# Altium footprint library status board parts.PcbLib: 6 footprints
Each footprint in its own frame and in the unit in brackets; x right, y up, seen from the top. Pads: shape width x height; smd on the part's side, far side on the other; paste and mask are expansions set on the pad; w line width, h text height; cw(c..) or ccw(c..) is an arc to the next point about the centre after c.
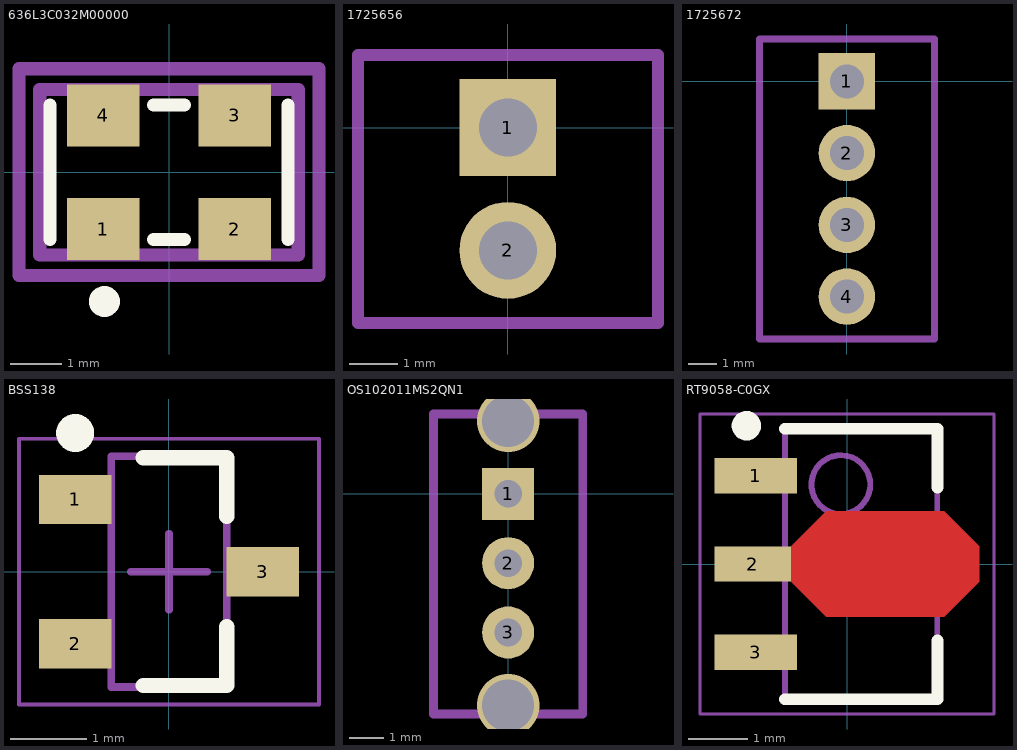
[diagram p0: the footprints below, top view; thin cyan lines are the x and y axes]

## 636L3C032M00000 [mm] "OSC XO 32.000MHZ HCMOS TTL SMD"
height 1.4
pads (4):
  rect 1.4x1.2 smd: 1(-1.27,-1.1) 2(1.27,-1.1) 3(1.27,1.1) 4(-1.27,1.1)
Top Overlay:
  circle w0.3: c-1.25,-2.5 r0.15
  lines w0.254: -2.3,-1.3 -2.3,1.3 ; -0.3,-1.3 0.3,-1.3 ; -0.3,1.3 0.3,1.3 ; 2.3,-1.3 2.3,1.3
Mechanical 13:
  lines w0.254: -2.5,-1.6 -2.5,1.6 2.5,1.6 2.5,-1.6 -2.5,-1.6
Mechanical 15:
  lines w0.254: -2.9,-2 2.9,-2 2.9,2 -2.9,2 -2.9,-2
3D body: height 2, standoff 0, extent -2.5,-1.6 2.5,1.6

## 1725656 [mm] "CONN TERM BLOCK 2.54MM 2POS"
height 8.5
pads (2):
  rect 2x2 hole 1.2: 1(0,0)
  round 2 hole 1.2: 2(0,-2.54)
Mechanical 15:
  lines w0.254: -3.096,-4.04 -3.096,1.5 3.104,1.5 3.104,-4.04 -3.048,-4.04

## 1725672 [mm] "CONN TERM BLOCK 2.54MM 2POS"
height 8.5
pads (4):
  rect 2x2 hole 1.2: 1(0,0)
  round 2 hole 1.2: 2(0,-2.54) 3(0,-5.08) 4(0,-7.62)
Mechanical 15:
  lines w0.254: -3.096,-9.12 3.104,-9.12 3.104,1.5 -3.096,1.5 -3.096,-9.12

## BSS138 [mm] "MOSFET N-CH 50V 220MA SOT-23"
height 1.12
pads (3):
  rect 0.95x0.65 smd: 1(-1.235,0.95) 2(-1.235,-0.95) 3(1.235,0)
Top Overlay:
  circle w0.25: c-1.235,1.825 r0.125
  lines w0.2: -0.34,-1.5 0.76,-1.5 0.76,-0.725 ; -0.34,1.5 0.76,1.5 0.76,0.725
Mechanical 13:
  lines w0.1: -0.76,-1.52 -0.76,1.52 0.76,1.52 0.76,-1.52 -0.76,-1.52
Mechanical 15:
  lines w0.05: -1.975,-1.75 -1.975,1.75 1.975,1.75 1.975,-1.75 -1.975,-1.75
  lines w0.1: -0.5,0 0.5,0 ; 0,-0.5 0,0.5
3D body: height 1.12, standoff 0, extent -0.76,-1.52 0.76,1.52

## OS102011MS2QN1 [mm] "SWITCH SLIDE SPDT 100MA 12V"
height 4
pads (3):
  rect 1.5x1.5 hole 0.8: 1(0,0)
  round 1.5 hole 0.8: 2(0,-2) 3(0,-4)
via 0,-6.1 diameter 1.8 hole 1.5
via 0,2.1 diameter 1.8 hole 1.5
Mechanical 15:
  lines w0.254: -2.159,-6.35 2.15,-6.35 2.15,2.286 ; -2.15,-6.35 -2.15,2.3 2.15,2.3

## RT9058-C0GX [mm]
height 1.6
pads (3):
  rect 1.4x0.6 smd: 1(-1.55,1.5) 3(-1.55,-1.5)
  rect 1.3x0.6 smd: 2(-1.6,0)
Top Layer:
  region: -0.95,0.3 -0.35,0.9 1.65,0.9 2.25,0.3 2.25,-0.3 1.65,-0.9 -0.35,-0.9 -0.95,-0.3
Top Overlay:
  circle w0.25: c-1.71,2.35 r0.125
  lines w0.2: -1.06,-2.3 1.54,-2.3 1.54,-1.3 ; -1.06,2.3 1.54,2.3 1.54,1.3
Mechanical 13:
  circle w0.1: c-0.105,1.35 r0.5
  lines w0.1: -1.055,-2.3 1.535,-2.3 1.535,2.3 -1.055,2.3 -1.055,-2.3
Mechanical 15:
  lines w0.05: -2.5,-2.55 2.5,-2.55 2.5,2.55 -2.5,2.55 -2.5,-2.55
  lines w0.1: -0.26,0 0.74,0 ; 0.24,-0.5 0.24,0.5
3D body: height 1.6, standoff 0, extent -1.055,-2.3 1.535,2.3